# EAGLE library part 74LVC245A (library doz)
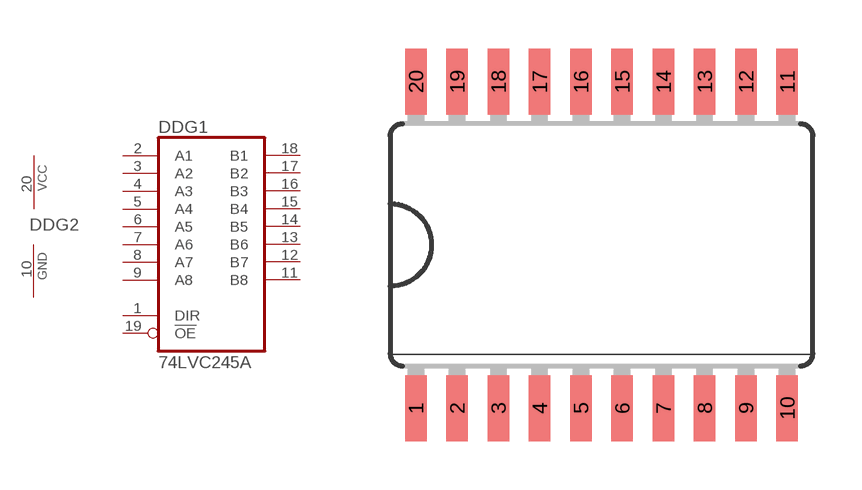
[diagram p23: symbol with the pads of SO20W; footprint SO20W]

Designator prefix DD; gates G1=74245 G2=PWRN

## 74LVC245A  [SO20W]
1  G1:DIR  in
2  G1:A1
3  G1:A2
4  G1:A3
5  G1:A4
6  G1:A5
7  G1:A6
8  G1:A7
9  G1:A8
10  G2:GND  pwr
11  G1:B8
12  G1:B7
13  G1:B6
14  G1:B5
15  G1:B4
16  G1:B3
17  G1:B2
18  G1:B1
19  G1:!OE  in
20  G2:VCC  pwr

## Footprint SO20W (pad centres in mm)
Wide Small Outline package 300 mil
smd 0.66 x 2.032: 1 -5.715,-5.029; 2 -4.445,-5.029; 3 -3.175,-5.029; 4 -1.905,-5.029; 5 -0.635,-5.029; 6 0.635,-5.029; 7 1.905,-5.029; 8 3.175,-5.029; 9 4.445,-5.029; 10 5.715,-5.029; 11 5.715,5.029; 12 4.445,5.029; 13 3.175,5.029; 14 1.905,5.029; 15 0.635,5.029; 16 -0.635,5.029; 17 -1.905,5.029; 18 -3.175,5.029; 19 -4.445,5.029; 20 -5.715,5.029